# EAGLE library part B22B-PUDSS-1 (library con-jst-pud)
JST connector, PUD series, 2.0mm spacing, crimp style, wire-to-board, 22 pin, top entry (with boss)
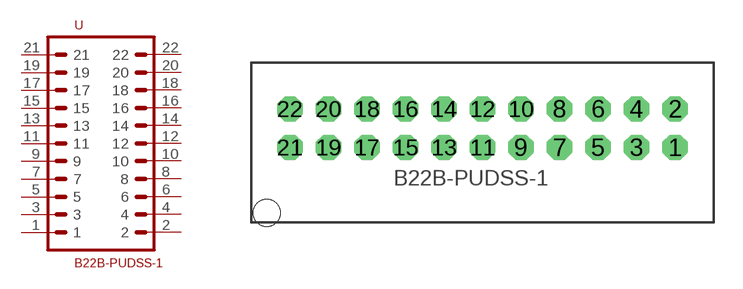
[diagram p15: symbol with the pads of PUD_22_PIN_TOP_ENTRY; footprint PUD_22_PIN_TOP_ENTRY]

Designator prefix -

## B22B-PUDSS-1 (DIGIKEY: 455-2506-ND; MF: JST; MPN: B20B-PUDSS-1)  [PUD_22_PIN_TOP_ENTRY]
1  1
2  2
3  3
4  4
5  5
6  6
7  7
8  8
9  9
10  10
11  11
12  12
13  13
14  14
15  15
16  16
17  17
18  18
19  19
20  20
21  21
22  22

## Footprint PUD_22_PIN_TOP_ENTRY (pad centres in mm)
drill 0.8 octagon: 1 10,0; 2 10,2; 3 8,0; 4 8,2; 5 6,0; 6 6,2; 7 4,0; 8 4,2; 9 2,0; 10 2,2; 11 0,0; 12 0,2; 13 -2,0; 14 -2,2; 15 -4,0; 16 -4,2; 17 -6,0; 18 -6,2; 19 -8,0; 20 -8,2; 21 -10,0; 22 -10,2
hole 1.4 at -11.2,-3.4